# EAGLE library part SN74HCX38 (library ElectricNoodleBox)
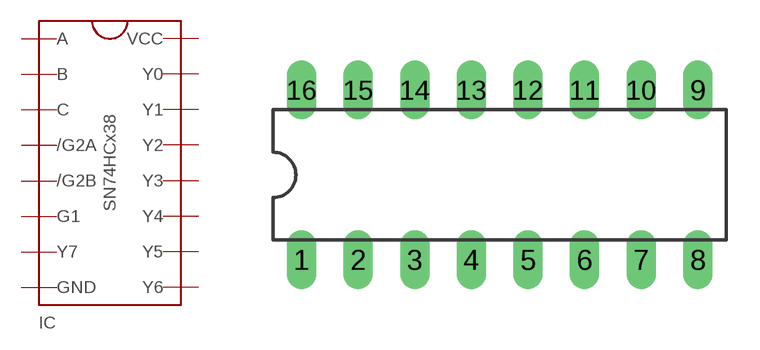
[diagram p8: symbol with the pads of DIL16; footprint DIL16]

Designator prefix IC

## SN74HCX38  [DIL16]
1  1_A  in
2  2_B  in
3  3_C  in
4  4_/G2A  in
5  5_/G2B  in
6  6_G1  in
7  7_Y7  out
8  8_GND  pwr
9  9_Y6  out
10  10_Y5  out
11  11_Y4  out
12  12_Y3  out
13  13_Y2  out
14  14_Y1  out
15  15_Y0  out
16  16_VCC  pwr

## Footprint DIL16 (pad centres in mm)
Dual In Line Package
drill 0.813 long: 1 -8.89,-3.81; 2 -6.35,-3.81; 3 -3.81,-3.81; 4 -1.27,-3.81; 5 1.27,-3.81; 6 3.81,-3.81; 7 6.35,-3.81; 8 8.89,-3.81; 9 8.89,3.81; 10 6.35,3.81; 11 3.81,3.81; 12 1.27,3.81; 13 -1.27,3.81; 14 -3.81,3.81; 15 -6.35,3.81; 16 -8.89,3.81